# EAGLE library part HFBR1528 (library opto-transmittter-hp)
OPTO TRANSMITTER
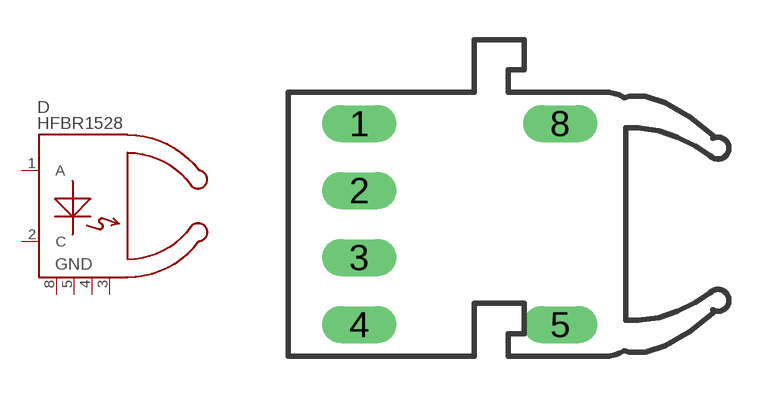
[diagram p2: symbol with the pads of HFBR25XX; footprint HFBR25XX]

Designator prefix D

## HFBR1528  [HFBR25XX]
1  A  pas
2  C  pas
3  1  pas
4  4  pas
5  GND  pas
8  GND  pas

## Footprint HFBR25XX (pad centres in mm)
OPTO RECEIVER
drill 0.9 long: 1 0,3.81; 2 0,1.27; 3 0,-1.27; 4 0,-3.81; 5 7.62,-3.81; 8 7.62,3.81